# Altium schematic symbol library MAX6165.SchLib: 1 symbol
Pins are listed as number, name and electrical type; pins without a type are passive.

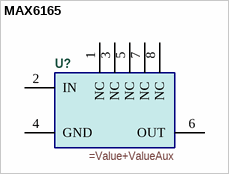
[diagram p0: symbol MAX6165]

## MAX6165
designator U?
=Description
pins: 1 NC, 2 IN (power), 3 NC, 4 GND (power), 5 NC, 6 OUT (power), 7 NC, 8 NC